# Altium footprint library Conectors.PcbLib: 137 footprints (part 5 of 9)
Each footprint in its own frame and in the unit in brackets; x right, y up, seen from the top. Pads: shape width x height; smd on the part's side, far side on the other; paste and mask are expansions set on the pad; w line width, h text height; cw(c..) or ccw(c..) is an arc to the next point about the centre after c.
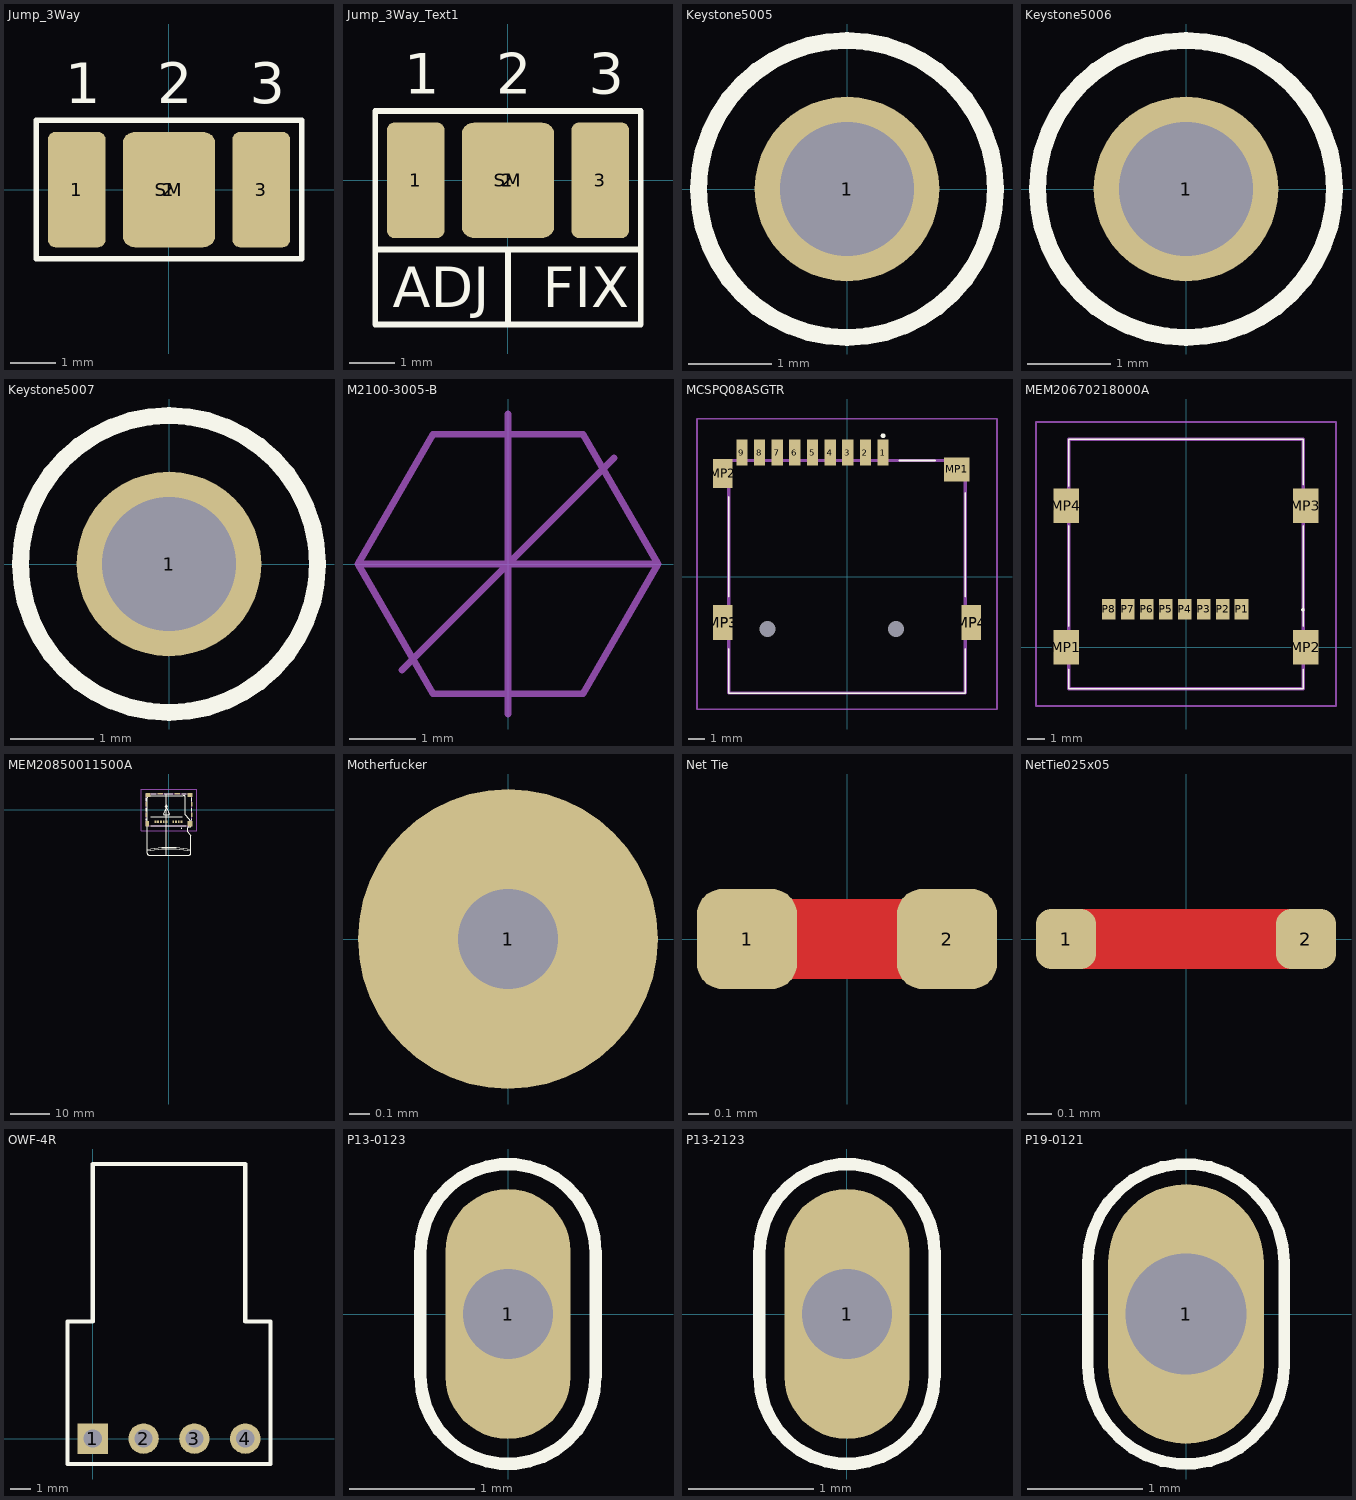
[diagram p4: the footprints below, top view; thin cyan lines are the x and y axes]

## Jump_3Way [mil] "SMT Battery jumper pads"
pads (4):
  rrect25% 50x100 smd: 1(-80,0) 3(80,0)
  rrect25% 80x100 smd: 2(0,0)
  rrect25% 218x108 on Top Solder: SM(0,0)
Top Overlay:
  lines w5: -115,-60 115,-60 115,60 -115,60 -115,-60
  text "3" at 70,75 h35
  text "2" at -10,75 h35
  text "1" at -90,75 h35
Mechanical 13:
  lines w3: -115,-60 115,-60 115,60 -115,60 -115,-60

## Jump_3Way_Text1 [mil] "SMT jumper for fixed or variable"
pads (4):
  rrect25% 50x100 smd: 1(-80,0) 3(80,0)
  rrect25% 80x100 smd: 2(0,0)
  rrect25% 218x108 on Top Solder: SM(0,0)
Top Overlay:
  lines w5: 0,-125 0,-60 ; -115,-60 115,-60 ; -115,-60 -115,60 115,60 115,-60 ; -115,-60 -115,-125 115,-125 115,-60
  text "3" at 70,75 h35
  text "2" at -10,75 h35
  text "1" at -90,75 h35
  text "ADJ" at -100,-110 h35
  text "FIX" at 30,-110 h35
Mechanical 13:
  lines w3: -115,-60 115,-60 115,60 -115,60 -115,-60

## Keystone5005 [mil] "Keystone Compact loops"
height 220
pads (1):
  round 87 hole 63: 1(0,0)
Top Overlay:
  circle w7.99: c0,0 r70
Mechanical 5:
  circle w5: c0,0 r70.71
  text ".Designator" at -55,-15 h30
3D body "Keystone_5005.stp": height 225.2, standoff -129.92, extent -63,-63 62.49,62.74

## Keystone5006 [mil] "Keystone Compact loops"
height 220
pads (1):
  round 87 hole 63: 1(0,0)
Top Overlay:
  circle w7.99: c0,0 r70
Mechanical 5:
  circle w5: c0,0 r70.71
  text ".Designator" at -55,-15 h30
3D body "Keystone_5006.stp": height 225.2, standoff -129.92, extent -63,-63 62.49,62.74

## Keystone5007 [mil] "Keystone Compact loops"
height 220
pads (1):
  round 87 hole 63: 1(0,0)
Top Overlay:
  circle w7.99: c0,0 r70
Mechanical 5:
  circle w5: c0,0 r70.71
  text ".Designator" at -55,-15 h30
3D body "Keystone_5007.stp": height 225.2, standoff -129.92, extent -63,-63 62.49,62.74

## M2100-3005-B [mm]
Mechanical 1:
  lines w0.1: -1.591,-1.591 1.591,1.591 ; 0,-2.25 0,2.25 ; -2.25,0 -1.125,-1.949 1.125,-1.949 2.25,0 ; -2.25,0 -1.125,1.949 1.125,1.949 2.25,0 ; -2.25,0 2.25,0

## MCSPQ08ASGTR [mm]
pads (15):
  rect 0.7x1.6 smd: 1(2.25,7.75) 2(1.15,7.75) 3(0.05,7.75) 4(-1.05,7.75) 5(-2.15,7.75) 6(-3.25,7.75) 7(-4.35,7.75) 8(-5.45,7.75) 9(-6.55,7.75)
  round 0.5 hole 1 unplated: MH1(3.05,-3.25) MH2(-4.95,-3.25)
  rect 1.6x1.5 smd: MP1(6.85,6.7)
  rect 1.2x1.8 smd: MP2(-7.75,6.45)
  rect 1.2x2.2 smd: MP3(-7.75,-2.85) MP4(7.75,-2.85)
Top Overlay:
  lines w0.1: -7.375,-7.25 -7.375,-4.5 -7.375,-7.25 ; -7.375,-7.25 7.375,-7.25 ; -7.375,-7.25 7.375,-7.25 ; 7.375,-7.25 7.375,-4.5 7.375,-7.25 ; -7.375,-1.25 -7.375,5 -7.375,-1.25 ; 3.25,7.25 5.5,7.25 3.25,7.25 ; 7.375,-1.25 7.375,5.25 7.375,-1.25
  lines w0.2: 2.2,8.8 ccw(c2.25,8.8) 2.3,8.8 ; 2.2,8.8 cw(c2.25,8.8) 2.3,8.8 ; 2.2,8.8 ccw(c2.25,8.8) 2.3,8.8
Mechanical 13:
  lines w0.2: -7.375,-7.25 -7.375,7.25 7.375,7.25 7.375,-7.25 -7.375,-7.25
Mechanical 15:
  lines w0.1: -9.35,-8.25 -9.35,9.85 9.35,9.85 9.35,-8.25 -9.35,-8.25
3D body "MCSP-Q-08-A-SG-T_R.stp": height 2.1, standoff -1.7, extent -8.23,-7.25 8.23,8.48

## MEM20670218000A [mm]
pads (12):
  rect 1.5x2 smd: MP1(-6.945,0) MP2(6.945,0) MP3(6.945,8.2) MP4(-6.945,8.2)
  rect 0.8x1.2 smd: P1(3.225,2.2) P2(2.125,2.2) P3(1.025,2.2) P4(-0.075,2.2) P5(-1.175,2.2) P6(-2.275,2.2) P7(-3.375,2.2) P8(-4.475,2.2)
Top Overlay:
  lines w0.1: -6.8,-1.275 -6.8,-2.4 6.8,-2.4 6.8,-1.275 ; -6.8,1.225 -6.8,7.025 ; -6.8,9.325 -6.8,12.05 6.8,12.05 6.8,9.425 ; 6.8,1.225 6.8,7.025 ; 6.775,2.125 ccw(c6.775,2.175) 6.775,2.225 ccw(c6.775,2.175) 6.775,2.125
Mechanical 13:
  lines w0.2: -6.8,-2.4 -6.8,12.05 6.8,12.05 6.8,-2.4 -6.8,-2.4
Mechanical 15:
  lines w0.1: -8.695,-3.4 -8.695,13.05 8.695,13.05 8.695,-3.4 -8.695,-3.4
3D body "MEM2067-02-180-00-A.stp": height 1.8, standoff 0, extent -7.3,-2.395 7.3,12.055
3D body "User Library-Micro_SD.step": height 1.85, standoff 0.87, extent -5.34,-3.425 5.66,11.575

## MEM20850011500A [mm]
pads (19):
  rect 0.45x0.7 smd: CD(-2.02,-2.99) P1(3.18,-2.99) P2(2.48,-2.99) P3(1.78,-2.99) P4(1.08,-2.99) P5(-0.62,-2.99) P6(-1.32,-2.99) P7(-2.72,-2.99) P8(-3.42,-2.99)
  rect 0.4x1.2 smd: GND(-5.75,-1.23) GND(-5.75,1.37) GND(5.75,-1.23) GND(5.75,1.37)
  rect 0.95x1.4 smd: GND(-5.475,-3.53)
  rect 1.3x1 smd: GND(-5.3,3.73) GND(5.3,3.73)
  rect 1.4x0.4 smd: GND(-2.14,4.03) GND(2.11,4.03)
  rect 1.3x1.4 smd: GND(5.3,-3.53)
Top Overlay:
  lines w0.1: -4.62,-1.725 3.38,-1.725 ; -0.87,0.75 -0.37,1.25 ; -0.87,1.25 -0.37,0.75 ; -5.485,-10.433 cw(c0.015,-39.925) 5.515,-10.433 ; -5.485,-10.433 -5.485,-10.925 ccw(c-4.985,-10.925) -4.985,-11.425 5.015,-11.425 ccw(c5.015,-10.925) 5.515,-10.925 5.515,-10.433 ; -5.485,-10.433 -5.485,-10.062 ; -5.485,-10.062 cw(c0.015,-39.925) 5.515,-10.062 ; -5.485,-10.062 -5.485,3.075 cw(c-4.985,3.075) -4.985,3.575 3.655,3.575 cw(c3.655,3.075) 4.155,3.075 4.155,-1.3 5.515,-2.921 5.515,-4.3 4.965,-4.3 ccw(c4.965,-4.55) 4.715,-4.55 4.715,-5.55 5.515,-6.503 5.515,-10.062 ; 5.515,-10.433 5.515,-10.062 ; -1.325,-1.108 ccw(c-1.233,-1.145) -1.233,-1.245 -0.007,-1.245 ccw(c-0.007,-1.145) 0.085,-1.108 -0.527,0.437 ccw(c-0.62,0.4) -0.713,0.437 -1.325,-1.108 ; 3.18,-4.7 ccw(c3.18,-4.65) 3.18,-4.6 ccw(c3.18,-4.65) 3.18,-4.7
  lines w0.15: -0.62,-11.425 -0.62,3.725
  lines w0.2: -5.76,-2.6 -5.76,-2.2 ; -5.76,-0.4 -5.76,0.4 ; -5.76,2.2 -5.76,3 ; -4.6,-4.03 4.4,-4.03 ; -4.4,4.03 -3.2,4.03 ; -1.2,4.03 1,4.03 ; 3.2,4.03 4.4,4.03 ; 5.76,-2.6 5.76,-2.2 ; 5.76,-0.4 5.76,0.4 ; 5.76,2.2 5.76,3
Mechanical 13:
  lines w0.1: -5.76,-4.03 5.76,-4.03 5.76,4.03 -5.76,4.03 -5.76,-4.03
Mechanical 15:
  lines w0.1: -6.96,-5.23 6.96,-5.23 6.96,5.23 -6.96,5.23 -6.96,-5.23
3D body "MEM2085-00-115-00-A.stp": height 1.18, standoff 0, extent -5.812,-4.082 5.819,4.076
3D body "User Library-Micro_SD.step": height 1.35, standoff 0.37, extent -5.5,-11.35 5.5,3.65

## Motherfucker [mm]
pads (1):
  round 1.5 hole 0.5: 1(0,0)
3D body: height 1.27, standoff 0, extent -2.54,-2.537 2.54,2.537

## Net Tie [mm]
pads (2):
  rrect50% 0.5x0.5 smd mask+0.102: 1(-0.5,0) 2(0.5,0)
Top Layer:
  lines w0.4: -0.5,0 0.5,0

## NetTie025x05 [mm]
pads (2):
  rrect50% 0.25x0.25 smd: 1(-0.5,0) 2(0.5,0)
Top Layer:
  lines w0.25: -0.5,0 0.5,0

## OWF-4R [mm] "3A Power connector"
pads (4):
  rect 1.5x1.5 hole 0.9: 1(0,0)
  round 1.5 hole 0.9: 2(2.5,0) 3(5,0) 4(7.5,0)
Top Overlay:
  lines w0.2: -1.25,-1.25 8.75,-1.25 8.75,3.75 8.75,5 8.75,5.75 7.5,5.75 7.5,6.25 7.5,13.5 0,13.5 0,6.25 0,5.75 -1.25,5.75 -1.25,5 -1.25,3.75 -1.25,-1.25
3D body "OWF-4R.stp": height 5.5, standoff -4, extent -1.25,-0.3 8.75,13.5

## P13-0123 [mm]
pads (1):
  oval 1x2 hole 0.72: 1(0,0)
Top Overlay:
  lines w0.1: -0.7,-0.5 ccw(c0,-0.5) 0.7,-0.5 0.7,0 0.7,0.5 ccw(c0,0.5) -0.7,0.5 -0.7,0 -0.7,-0.5
3D body "Pogopin_P13-0123 v2.step": height 13.15, standoff -3.2, extent -0.34,-0.338 0.34,0.338

## P13-2123 [mm]
pads (1):
  oval 1x2 hole 0.72: 1(0,0)
Top Overlay:
  lines w0.1: -0.7,-0.5 ccw(c0,-0.5) 0.7,-0.5 0.7,0 0.7,0.5 ccw(c0,0.5) -0.7,0.5 -0.7,0 -0.7,-0.5
3D body "Pogopin_P13-2123.step": height 13.15, standoff -3.2, extent -0.5,-0.496 0.5,0.496

## P19-0121 [mm]
pads (1):
  oval 1.35x2.25 hole 1.05: 1(0,0)
Top Overlay:
  lines w0.1: -0.85,-0.45 ccw(c0,-0.45) 0.85,-0.45 0.85,0.45 ccw(c0,0.45) -0.85,0.45 -0.85,-0.45
3D body "P19-0121.stp": height 13.35, standoff -3, extent -0.505,-0.501 0.505,0.501